# EAGLE library part 07-JST (library bt_con-jst-xh)
JST CONNECTOR
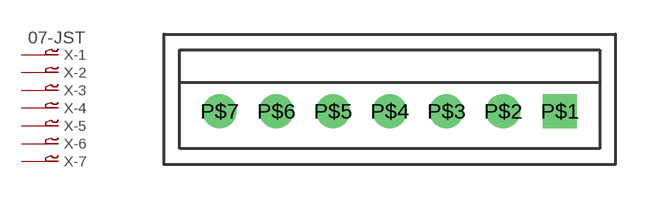
[diagram p1: symbol with the pads of B7B-XH; footprint B7B-XH]

Designator prefix X; gates -1=P-VN -2=P-N -3=P-N -4=P-N -5=P-N -6=P-N -7=P-N

## 07-JST  [B7B-XH]
P$1  -1:1  pas
P$2  -2:1  pas
P$3  -3:1  pas
P$4  -4:1  pas
P$5  -5:1  pas
P$6  -6:1  pas
P$7  -7:1  pas

## Footprint B7B-XH (pad centres in mm)
JST XH Connector JST 2.54mm connector. Folded beam contact, box-shaped shrouded header, header with a boss, interchangeability, conformance to the HA terminal Datasheet: eXH.pdf <http://www.jst-mfg.com/product/pdf/eng/eXH.pdf>
drill 1 square: P$1 7.5,0
drill 1: P$2 5,0; P$3 2.5,0; P$4 0,0; P$5 -2.5,0; P$6 -5,0; P$7 -7.5,0